# EAGLE library part 200-015-263R001 (library vga_connector)
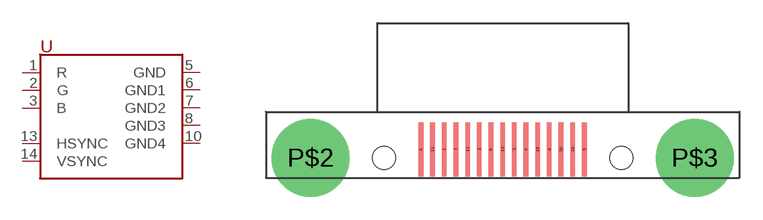
[diagram p0: symbol with the pads of 200-015-263R001; footprint 200-015-263R001]

Designator prefix -

## 200-015-263R001  [200-015-263R001]
1  R
2  G
3  B
5  GND
6  GND1
7  GND2
8  GND3
10  GND4
13  HSYNC
14  VSYNC

## Footprint 200-015-263R001 (pad centres in mm)
smd 0.305 x 3.505: 1 8.694,0.559; 2 10.973,0.559; 3 13.251,0.559; 4 15.53,0.559; 5 17.808,0.559; 6 7.176,0.559; 7 9.454,0.559; 8 11.732,0.559; 9 14.011,0.559; 10 16.289,0.559; 11 7.935,0.559; 12 10.213,0.559; 13 12.492,0.559; 14 14.77,0.559; 15 17.049,0.559
drill 3.048 pad 5.08 round: P$2 0,0; P$3 24.994,0
hole 1.499 at 4.763,0
hole 1.499 at 20.231,0